# EAGLE library part MC14557BCPG (library ON Semiconductor_By_element14_Batch_1)
Shift Register
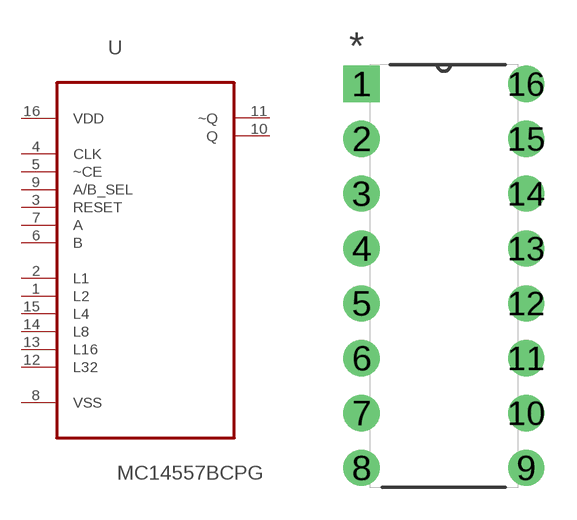
[diagram p302: symbol with the pads of DIP254P762X444-16; footprint DIP254P762X444-16]

Designator prefix U

## MC14557BCPG (MPN: MC14557BCPG; OC_FARNELL: 1191819; OC_NEWARK: 45J1134; PACKAGE: PDIP-16; SUPPLIER: On semiconductors)  [DIP254P762X444-16]
1  L2  in
2  L1  in
3  RESET  in
4  CLK  in
5  ~CE  in
6  B  in
7  A  in
8  VSS  pwr
9  A/B_SEL  in
10  Q  out
11  ~Q  out
12  L32  in
13  L16  in
14  L8  in
15  L4  in
16  VDD  pwr

## Footprint DIP254P762X444-16 (pad centres in mm)
drill 1.118 square: 1 -7.62,17.78
drill 1.118: 2 -7.62,15.24; 3 -7.62,12.7; 4 -7.62,10.16; 5 -7.62,7.62; 6 -7.62,5.08; 7 -7.62,2.54; 8 -7.62,0; 9 0,0; 10 0,2.54; 11 0,5.08; 12 0,7.62; 13 0,10.16; 14 0,12.7; 15 0,15.24; 16 0,17.78